# Altium schematic symbol library TangCW.SchLib: 58 symbols
Pins are listed as number, name and electrical type; pins without a type are passive.

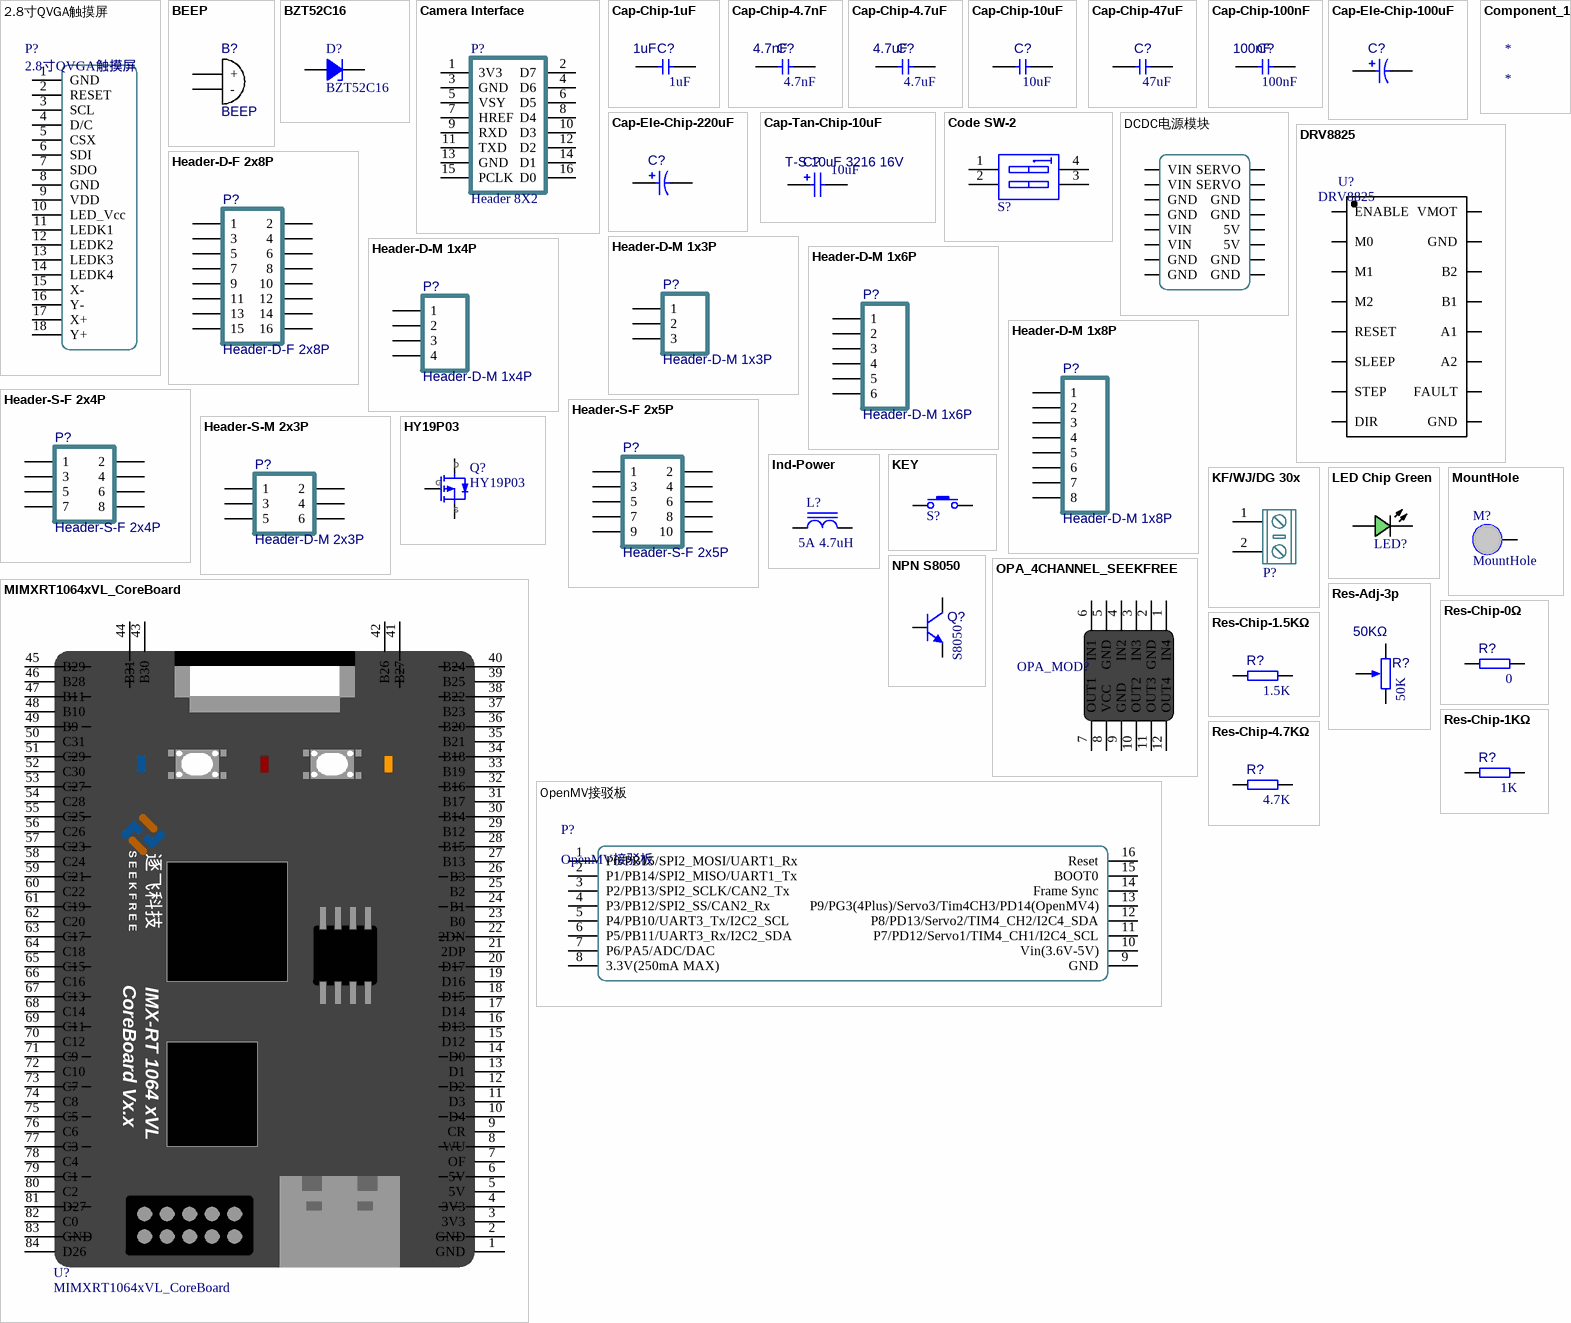
[diagram p0: symbols 2.8寸QVGA触摸屏 to Res-Chip-4.7KΩ]

## 2.8寸QVGA触摸屏
designator P?
footprint 2.8寸电阻屏
pins: 1 GND, 2 RESET, 3 SCL, 4 D/C, 5 CSX, 6 SDI, 7 SDO, 8 GND, 9 VDD, 10 LED_Vcc, 11 LEDK1, 12 LEDK2, 13 LEDK3, 14 LEDK4, 15 X-, 16 Y-, 17 X+, 18 Y+

## BEEP
designator B?
蜂鸣器
footprint BEEP 9x5.5mm
pins: 1 +, 2 -

## BZT52C16
designator D?
稳压二极管 齐纳二极管  Zener Diode; Published: 8-Jun-2000; Revision: July-2002: Re-released for DXP Platform.; Publisher: Altium Limited; Price(RMB): 0.000
footprint SOD-123-L
pins: A, K

## Camera Interface
designator P?, comment Header 8X2
摄像头转接板接口 2x8 双排座; LatestRevisionDate: 17-Jul-2002; LatestRevisionNote: Re-released for DXP Platform.; Publisher: Altium Limited; Price(RMB): 0.00
footprint Cam_HDR2X8-F-SMT
pins: 1 3V3, 2 D7, 3 GND, 4 D6, 5 VSY, 6 D5, 7 HREF, 8 D4, 9 RXD, 10 D3, 11 TXD, 12 D2, 13 GND, 14 D1, 15 PCLK, 16 D0

## Cap-Chip-1uF
designator C?, comment 1uF
贴片瓷片电容 0603; Revision: V1.0; Value: 1uF
footprint CAPC1608[0603]S-L
pins: 1, 2

## Cap-Chip-4.7nF
designator C?, comment 4.7nF
贴片瓷片电容 0603; Revision: V1.0; Value: 4.7nF
footprint CAPC1608[0603]S-L
pins: 1, 2

## Cap-Chip-4.7uF
designator C?, comment 4.7uF
贴片瓷片电容 1206; Revision: V1.0; Value: 4.7uF
footprint CAPC3216[1206]S
pins: 1, 2

## Cap-Chip-10uF
designator C?, comment 10uF
贴片瓷片电容 0805; Revision: V1.0; Value: 10uF
footprint CAPC2012 [0805] S - L
pins: 1, 2

## Cap-Chip-47uF
designator C?, comment 47uF
贴片瓷片电容 1206; Revision: V1.0; Value: 47uF
footprint CAPC3216[1206]S
pins: 1, 2

## Cap-Chip-100nF
designator C?, comment 100nF
贴片瓷片电容 0603; Revision: V1.0; Value: 100nF
footprint CAPC1608[0603]S-L
pins: 1, 2

## Cap-Ele-Chip-100uF
designator C?, comment 100uF  (value not drawn)
贴片电解电容 50V 6.3x7.7; Type: 铝电解; Revision: V1.0
footprint CAP-E-S 6.3
pins: 1, 2

## Cap-Ele-Chip-220uF
designator C?, comment 220uF  (value not drawn)
贴片电解电容 25V 6.3x7.7; Type: 铝电解; Revision: V1.0
footprint CAP-E-S 6.3
pins: 1, 2

## Cap-Tan-Chip-10uF
designator C?, comment T-S 10uF 3216 16V  value 10uF
贴片钽电容 3216 16V; Revision: July-2002: Re-released for DXP Platform.
footprint CAP-T-S 3216
pins: 1, 2

## Code SW-2
designator S?, comment SW DIP-2  (value not drawn)
2位拨码开关; Published: 24-Mar-1999; Revision: July-2002: Re-released for DXP Platform.; Publisher: Altium Limited; Price(RMB): 0.000
footprint Code SW-2-DIP-2.54
pins: 1 A1, 2 A2, 3 B2, 4 B1

## Component_1
designator *

## DCDC电源模块
designator *  (value not drawn)
footprint DCDC电源模块
pins: 1 VIN, 2 VIN, 3 GND, 4 GND, 5 VIN, 6 VIN, 7 GND, 8 GND, 9 GND, 10 GND, 11 5V, 12 5V, 13 GND, 14 GND, 15 SERVO, 16 SERVO

## DRV8825
designator U?
电机驱动模块-步进电机
footprint DRV8825
pins: 1 ENABLE, 2 M0, 3 M1, 4 M2, 5 RESET, 6 SLEEP, 7 STEP, 8 DIR, 9 GND, 10 FAULT, 11 A2, 12 A1, 13 B1, 14 B2, 15 GND, 16 VMOT

## Header-D-F 2x8P
designator P?
2x8pin, 直插, 双排座; Revision: V1.0; Value: Header-D-F 2x8P
footprint HDR2X8-F-High
footprint HDR2X8-F
pins: 1, 2, 3, 4, 5, 6, 7, 8, 9, 10, 11, 12, 13, 14, 15, 16

## Header-D-M 1x3P
designator P?
1x3pin, 直插, 排针; Revision: V1.0; Value: Header-D-M 1x3P
footprint HDR1X3-M
pins: 1, 2, 3

## Header-D-M 1x4P
designator P?
1x4pin, 直插, 排针; Revision: V1.0; Value: Header-D-M 1x4P
footprint HDR1X4-M
pins: 1, 2, 3, 4

## Header-D-M 1x6P
designator P?
1x6pin, 直插, 排针; Revision: V1.0; Value: Header-D-M 1x6P
footprint HDR1X6-M
pins: 1, 2, 3, 4, 5, 6

## Header-D-M 1x8P
designator P?
1x8pin, 直插, 排针; Revision: V1.0; Value: Header-D-M 1x8P
footprint HDR1X8-M
pins: 1, 2, 3, 4, 5, 6, 7, 8

## Header-S-F 2x4P
designator P?
2x4pin, 贴片, 双排座; Revision: V1.0; Value: Header-S-F 2x4P
footprint HDR2X4-F-SMT
footprint HDR2X4-F
pins: 1, 2, 3, 4, 5, 6, 7, 8

## Header-S-F 2x5P
designator P?
2x5pin, 贴片, 双排座; Revision: V1.0; Value: Header-S-F 2x5P
footprint HDR2X5-F-SMT
pins: 1, 2, 3, 4, 5, 6, 7, 8, 9, 10

## Header-S-M 2x3P
designator P?, comment Header-D-M 2x3P
2x3pin, 贴片, 双排针; Revision: V1.0; Value: Header-D-M 2x3P
footprint HDR2X3-M-SMT
pins: 1, 2, 3, 4, 5, 6

## HY19P03
designator Q?
HY19P03 P-Channel MOSFET
footprint TO-252AA
pins: 1 D, 2 G, 3 S

## Ind-Power
designator L?, comment value 4.7uH  Imax: 5A  (hidden comment: 4.7uH 5A)
功率电感; DCR: .5m; Published: 8-Jun-2000; Revision: July-2002: Re-released for DXP Platform.; Publisher: Altium Limited; Price(RMB): 0.000
footprint 0630 TPC 7*7*3
pins: 1, 2

## KEY
designator S?, comment Button  (value not drawn)
按键; Published: 24-Mar-1999; Publisher: Altium Limited; Price(RMB): 0.000
footprint PTS810-3*4-CurvePin
pins: 1, 2

## KF/WJ/DG 30x
designator P?, comment KF/WJ/DG 30x connecter  (value not drawn)
接线端子 2Pin
footprint KF/WJ/DG 301-2p-5.0mm
pins: 1, 2

## LED Chip Green
designator LED?, comment 翠绿贴片LED  (value not drawn)
Published: 8-Jun-2000; Revision: July-2002: Re-released for DXP Platform.; Publisher: Altium Limited; Price(RMB): 0.00
footprint LEDC1608(0603)-L
pins: A, C

## MIMXRT1064xVL_CoreBoard
designator U?
逐飞科技i.MX RT1064核心板整体原理，可直接使用
footprint MIMXRT1064xVL_CoreBoard - 3D
pins: 1 GND, 2 GND, 3 3V3, 4 3V3, 5 5V, 6 5V, 7 OF, 8 WU, 9 CR, 10 D4, 11 D3, 12 D2, 13 D1, 14 D0, 15 D12, 16 D13, 17 D14, 18 D15, 19 D16, 20 D17, 21 2DP, 22 2DN, 23 B0, 24 B1, 25 B2, 26 B3, 27 B13, 28 B15, 29 B12, 30 B14, 31 B17, 32 B16, 33 B19, 34 B18, 35 B21, 36 B20, 37 B23, 38 B22, 39 B25, 40 B24, 41 B27, 42 B26, 43 B30, 44 B31, 45 B29, 46 B28, 47 B11, 48 B10, 49 B9, 50 C31, 51 C29, 52 C30, 53 C27, 54 C28, 55 C25, 56 C26, 57 C23, 58 C24, 59 C21, 60 C22, 61 C19, 62 C20, 63 C17, 64 C18, 65 C15, 66 C16, 67 C13, 68 C14, 69 C11, 70 C12, 71 C9, 72 C10, 73 C7, 74 C8, 75 C5, 76 C6, 77 C3, 78 C4, 79 C1, 80 C2, 81 D27, 82 C0, 83 GND, 84 D26
text: S E E K F R E E; 逐飞科技; CoreBoard Vx.x; IMX-RT 1064 xVL

## MountHole
designator M?  (no BOM)
固定孔
footprint M3-MountHole
pins: 1

## NPN S8050
designator Q?, comment S8050
Discrete NPN Bipolar Transistor; Published: 8-Jun-2000; Revision: July-2002: Re-released for DXP Platform.; Publisher: Altium Limited; Price(RMB): 0.000; PartNumber: S8050
footprint SOT-23
pins: 1 B, 2 E, 3 C

## OPA_4CHANNEL_SEEKFREE
designator OPA_MOD?, comment OPA_MOD  (value not drawn)
OPA module
footprint SEEKFREE_4CHANEL_OPAMOD
pins: 1 IN4, 2 GND, 3 IN3, 4 IN2, 5 GND, 6 IN1, 7 OUT1, 8 VCC, 9 GND, 10 OUT2, 11 OUT3, 12 OUT4

## OpenMV接驳板
designator P?
footprint OpenMV扩展版(贴片排母)
pins: 1 P0/PB15/SPI2_MOSI/UART1_Rx, 2 P1/PB14/SPI2_MISO/UART1_Tx, 3 P2/PB13/SPI2_SCLK/CAN2_Tx, 4 P3/PB12/SPI2_SS/CAN2_Rx, 5 P4/PB10/UART3_Tx/I2C2_SCL, 6 P5/PB11/UART3_Rx/I2C2_SDA, 7 P6/PA5/ADC/DAC, 8 3.3V(250mA MAX), 9 GND, 10 Vin(3.6V-5V), 11 P7/PD12/Servo1/TIM4_CH1/I2C4_SCL, 12 P8/PD13/Servo2/TIM4_CH2/I2C4_SDA, 13 P9/PG3(4Plus)/Servo3/Tim4CH3/PD14(OpenMV4), 14 Frame Sync, 15 BOOT0, 16 Reset

## Res-Adj-3p
designator R?, comment 50KΩ  value 50K
可调电阻
footprint RESPOT3296W
pins: 1 TOP, 2 BOT, ADJ

## Res-Chip-0Ω
designator R?, comment value 0  (hidden comment: 0Ω)
贴片电阻 0603; Power: 1/8W; Tolerance: ±1%; Revision: V1.0
footprint RESC1608[0603]S-L
pins: 1, 2

## Res-Chip-1.5KΩ
designator R?, comment value 1.5K  (hidden comment: 1.5KΩ)
贴片电阻 0603; Power: 1/8W; Tolerance: ±1%; Revision: V1.0
footprint RESC1608[0603]S-L
pins: 1, 2

## Res-Chip-1KΩ
designator R?, comment value 1K  (hidden comment: 1KΩ)
贴片电阻 0603; Tolerance: ±1%; Published: 8-Jun-2000; Revision: July-2002: Re-released for DXP Platform.
footprint RESC1608[0603]S-L
pins: 1, 2

## Res-Chip-4.7KΩ
designator R?, comment value 4.7K  (hidden comment: 4.7KΩ)
贴片电阻 0603; Power: 1/8W; Tolerance: ±1%; Revision: V1.0
footprint RESC1608[0603]S-L
pins: 1, 2

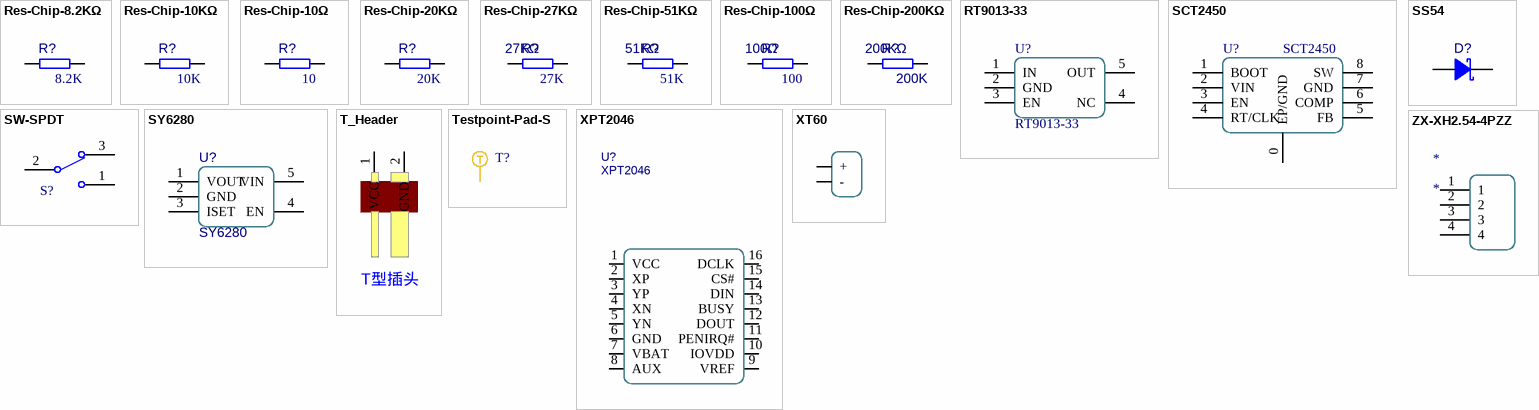
[diagram p1: symbols Res-Chip-8.2KΩ to ZX-XH2.54-4PZZ]

## Res-Chip-8.2KΩ
designator R?, comment value 8.2K  (hidden comment: 8.2KΩ)
贴片电阻 0603; Power: 1/8W; Tolerance: ±1%; Revision: V1.0
footprint RESC1608[0603]S-L
pins: 1, 2

## Res-Chip-10KΩ
designator R?, comment value 10K  (hidden comment: 10KΩ)
贴片电阻 0603; Power: 1/8W; Tolerance: ±1%; Revision: V1.0
footprint RESC1608[0603]S-L
pins: 1, 2

## Res-Chip-10Ω
designator R?, comment value 10  (hidden comment: 10Ω)
贴片电阻 0603; Tolerance: ±1%; Published: 8-Jun-2000; Revision: July-2002: Re-released for DXP Platform.
footprint RESC1608[0603]S-L
pins: 1, 2

## Res-Chip-20KΩ
designator R?, comment value 20K  (hidden comment: 20KΩ)
贴片电阻 0603; Power: 1/8W; Tolerance: ±1%; Revision: V1.0
footprint RESC1608[0603]S-L
pins: 1, 2

## Res-Chip-27KΩ
designator R?, comment 27KΩ  value 27K
贴片电阻 0603; Power: 1/8W; Tolerance: ±1%; Revision: V1.0
footprint RESC1608[0603]S-L
pins: 1, 2

## Res-Chip-51KΩ
designator R?, comment 51KΩ  value 51K
贴片电阻 0603; Power: 1/8W; Tolerance: ±1%; Revision: V1.0
footprint RESC1608[0603]S-L
pins: 1, 2

## Res-Chip-100Ω
designator R?, comment 100Ω  value 100
贴片电阻 0603; Tolerance: ±1%; Published: 8-Jun-2000; Revision: July-2002: Re-released for DXP Platform.
footprint RESC1608[0603]S-L
pins: 1, 2

## Res-Chip-200KΩ
designator R?, comment 200KΩ  value 200K
贴片电阻 0603; Power: 1/8W; Tolerance: ±1%; Revision: V1.0
footprint RESC1608[0603]S-L
pins: 1, 2

## RT9013-33
designator U?
3.3V 500mA SOT-23-5 LDO
footprint SOT-23-5
pins: 1 IN, 2 GND, 3 EN, 4 NC, 5 OUT

## SCT2450
designator U?
3.8V-36V Vin, 5A, High Efficiency Synchronous Step-down DCDC Converter / with Programmable Frequency
footprint SOP-8E
pins: 0 EP/GND, 1 BOOT, 2 VIN, 3 EN, 4 RT/CLK, 5 FB, 6 COMP, 7 GND, 8 SW

## SS54
designator D?
SS54 肖特基二极管; Revision: V1.0
footprint SMA-L[DO-214AC]
pins: A, K

## SW-SPDT
designator S?  (value not drawn)
单刀双掷开关 3脚船型、钮子、拨动开关 SPDT Subminiature Toggle Switch; Published: 24-Mar-1999; Publisher: Altium Limited; Price(RMB): 0.000
footprint SS12D10
pins: 1, 2, 3

## SY6280
designator U?
SY6280 2A 限额配电开关; Imax: 2.1A; Published: 2020-12-08; Revision: V1.0
footprint SOT-23-5
pins: 1 VOUT, 2 GND, 3 ISET, 4 EN, 5 VIN

## T_Header
designator DCIN?, comment T型插头
footprint Wired T-Header ThroughHole
pins: 1 VCC, 2 GND

## Testpoint-Pad-S
designator T?, comment Testpoint-Pad  (value not drawn)  (no BOM)
测试点，就是个焊盘
footprint testpoint-pad-1mm
pins: 1 T

## XPT2046
designator U?
触摸屏控制器; BOM_Manufacturer: XPT; BOM_Supplier: LCSC; BOM_Manufacturer Part: XPT2046; BOM_Supplier Part: C19076; BOM_JLCPCB Part Class: Extended Part; spicePre: U; spiceSymbolName: XPT2046
footprint TSSOP-16_L5.0
pins: 1 VCC, 2 XP, 3 YP, 4 XN, 5 YN, 6 GND, 7 VBAT, 8 AUX, 9 VREF, 10 IOVDD, 11 PENIRQ#, 12 DOUT, 13 BUSY, 14 DIN, 15 CS#, 16 DCLK

## XT60
designator *  (value not drawn)
footprint XT60
pins: 1 -, 2 +

## ZX-XH2.54-4PZZ
designator *
接线端子
footprint ZX-XH2.54-4PZZ
footprint CONN-TH_4P-P2.50_ZX-XH2.54-4PWZ
pins: 1, 2, 3, 4